# Altium integrated library TPM-Simonk-130A.IntLib: 21 symbols
Pins are listed as number, name and electrical type; pins without a type are passive.

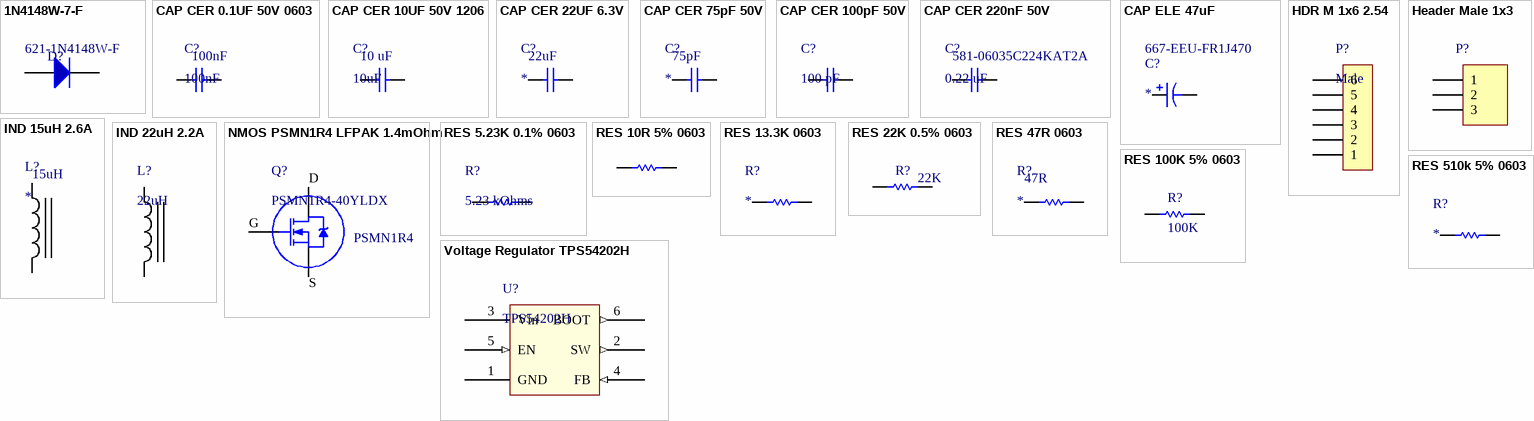
[diagram p0: symbols 1N4148W-7-F to Voltage Regulator TPS54202H]

## 1N4148W-7-F
designator D?  Supplier Part Number 1: 621-1N4148W-F  (hidden comment: *)
Diodes - General Purpose, Power, Switching 100V Io/150mA T/R; Manufacturer: Diodes Incorporated; Manufacturer Part Number: 1N4148W-7-F; Configuration: Single; Type: Switching Diode; Max Surge Current: 2 A; Recovery Time: 4 ns; If - Forward Current: 0.15 A; Ir - Reverse Current: 1 uA; Vf - Forward Voltage: 1.25 V; Supplier 1: Mouser; RoHS: RoHS Compliant; Category: Diodes - General Purpose, Power, Switching; Stock 1: 109136; Pricing 1: 1=0.160, 10=0.149, 100=0.053, 1000=0.035, 3000=0.027, 9000=0.023, 24000=0.021, 45000=0.019, 99000=0.015 (USD); Height: 1.25 mm; Length: 2.85 mm; Operating Temperature Range: - 65 C to + 150 C; Package / Case: SOD-123; Packaging: Reel; Product: Switching Diodes; Series: 1N4148; Width: 1.7 mm; Brand: Diodes Incorporated; Mounting Style: SMD/SMT; Maximum Operating Temperature: + 150 C; Minimum Operating Temperature: - 65 C; Peak Reverse Voltage: 100 V; Standard Pack Qty: 3000; RoHS - Mouser: Y; Minimum Order Quantity: 1; Reeling: True; ComponentLink1URL: http://www.mouser.com/ds/2/115/ds30086-60872.pdf; ComponentLink1Description: http://www.mouser.com/ds/2/115/ds30086-60872.pdf
footprint SOD123 (SOD-123; 2 Leads; Body 2.7 x 1.6 mm, (LxW))
pins: 1, 2

## CAP CER 0.1UF 50V 0603
designator C?, comment 100nF
Multilayer Ceramic Capacitors MLCC - SMD/SMT 100nF 50Volts X7R 0603 STD; Manufacturer: Murata Electronics North America; Manufacturer Part Number: GRM188R71H104KA93D; Capacitance: 0.10µF; Tolerance: ±10%; Voltage - Rated: 50V; Supplier 1: Digi-Key; RoHS: RoHS Compliant; Category: Capacitors; Stock 1: 6082661; Pricing 1: 1=0.1, 10=0.04, 50=0.0214, 100=0.0182, 250=0.01484, 500=0.0127, 1000=0.0099 (USD); Packaging: Cut Tape (CT); Temperature Coefficient: X7R; Mounting Type: Surface Mount, MLCC; Operating Temperature: -55°C ~ 125°C; Applications: General Purpose; Ratings: -; Package / Case: 0603 (1608 Metric); Size / Dimension: 0.063" L x 0.031" W (1.60mm x 0.80mm); Height - Seated (Max): -; Thickness (Max): 0.035" (0.90mm); Lead Spacing: -; Features: -; Lead Style: -; ComponentLink1URL: http://www.murata.com/~/media/webrenewal/support/library/catalog/products/capacitor/mlcc/c02e.pdf; ComponentLink1Description: http://www.murata.com/~/media/webrenewal/support/library/catalog/products/capacitor/mlcc/c02e.pdf; Supplier Part Number 1: 100nF
footprint Capacitor-0603 (Chip Capacitor; Body 1.6 x 0.8 mm (LxW typ))
pins: 1, 2

## CAP CER 10UF 50V 1206
designator C?, comment 10uF  Capacitance: 10 uF
Multilayer Ceramic Capacitors MLCC - SMD/SMT 1206 10uF 50volts X5R 20%; Manufacturer: Murata Electronics; Manufacturer Part Number: GRM31CR61H106MA12L; Type: General Purpose Ceramic Capacitors; Voltage Rating DC: 50 VDC; Class: Class 2; Supplier 1: Mouser; RoHS: RoHS Compliant; Category: Multilayer Ceramic Capacitors MLCC - SMD/SMT; Stock 1: 25733; Pricing 1: 1=0.340, 10=0.186, 100=0.122, 500=0.111, 1000=0.101, 2000=0.070, 10000=0.068, 24000=0.066, 50000=0.059 (USD); Height: 1.6 mm; Length: 3.2 mm; Package / Case: 1206 (3216 metric); Packaging: Reel; Product: General Type MLCCs; Series: GRM; Termination Style: SMD/SMT; Tolerance: 20 %; Width: 1.6 mm; Brand: Murata Electronics; Case Code - in: 1206; Case Code - mm: 3216; Dielectric: X5R; Maximum Operating Temperature: + 85 C; Minimum Operating Temperature: - 55 C; Standard Pack Qty: 2000; RoHS - Mouser: Y; Minimum Order Quantity: 1; Reeling: True
footprint CAP1206 (Chip Capacitor, Body 3.2x1.6mm, 1.0mm H, EIA 1206, IPC Medium Density)
pins: 1, 2

## CAP CER 22UF 6.3V
designator C?  Supplier Part Number 1: 22uF
Multilayer Ceramic Capacitors MLCC - SMD/SMT 1206 22uF 6.3volts X7R 20% Soft Term; Manufacturer: TDK; Manufacturer Part Number: CGA5L1X7R0J226M160AE; Type: Automotive MLCCs; Voltage Rating DC: 6.3 VDC; Class: Class 2; Product Status: New Product; Supplier 1: Mouser; RoHS: RoHS Compliant; Category: Multilayer Ceramic Capacitors MLCC - SMD/SMT; Stock 1: 3093; Pricing 1: 1=1.11, 10=0.931, 100=0.495, 500=0.445, 1000=0.405, 2000=0.272, 10000=0.257, 24000=0.252 (USD); Capacitance: 22 uF; Height: 1.6 mm; Length: 3.2 mm; Package / Case: 1206 (3216 metric); Packaging: Reel; Product: Automotive MLCCs; Series: CGA; Termination Style: SMD/SMT; Tolerance: 20 %; Width: 1.6 mm; Brand: TDK; Case Code - in: 1206; Case Code - mm: 3216; Dielectric: X7R; Maximum Operating Temperature: + 125 C; Minimum Operating Temperature: - 55 C; Standard Pack Qty: 2000; Termination: Flexible (Soft); RoHS - Mouser: Y; Minimum Order Quantity: 1; Reeling: True; ComponentLink1URL: http://www.mouser.com/ds/2/400/lcc_commercial_soft_en-775842.pdf; ComponentLink1Description: http://www.mouser.com/ds/2/400/lcc_commercial_soft_en-775842.pdf
footprint Capacitor-0603 (Chip Capacitor; Body 1.6 x 0.8 mm (LxW typ))
pins: 1, 2

## CAP CER 75pF 50V
designator C?  Supplier Part Number 1: 75pF
Multilayer Ceramic Capacitors MLCC - SMD/SMT 50volts 0.75pF C0G 0.25%; Manufacturer: Kemet; Manufacturer Part Number: C0603C758C5GACTU; Tolerance: 0.25 pF; Type: SMD MLCC C0G 10 - 250 VDC Commercial Grade; Voltage Rating DC: 50 VDC; Class: Class 1; Dielectric: C0G (NP0); Qualification: Commercial; Supplier 1: Mouser; RoHS: RoHS Compliant; Category: Multilayer Ceramic Capacitors MLCC - SMD/SMT; Stock 1: 3439; Pricing 1: 1=0.350, 10=0.205, 100=0.124, 500=0.113, 1000=0.102, 4000=0.075, 8000=0.068, 24000=0.066, 48000=0.058 (USD); Capacitance: 0.75 pF; Height: 0.8 mm; Length: 1.6 mm; Package / Case: 0603 (1608 metric); Packaging: Reel; Product: General Type MLCCs; Series: C0603C; Termination Style: SMD/SMT; Voltage Rating AC: -; Width: 0.8 mm; Brand: Kemet; Case Code - in: 0603; Case Code - mm: 1608; Maximum Operating Temperature: + 125 C; Minimum Operating Temperature: - 55 C; Standard Pack Qty: 4000; Termination: -; RoHS - Mouser: Y; Minimum Order Quantity: 1; Reeling: True; ComponentLink1URL: http://www.mouser.com/ds/2/212/KEM_C1003_C0G_SMD-356956.pdf; ComponentLink1Description: http://www.mouser.com/ds/2/212/KEM_C1003_C0G_SMD-356956.pdf
footprint Capacitor-0603 (Chip Capacitor; Body 1.6 x 0.8 mm (LxW typ))
pins: 1, 2

## CAP CER 100pF 50V
designator C?, comment 100 pF
Multilayer Ceramic Capacitors MLCC - SMD/SMT 100pF 5% 50V X7R; Manufacturer: Kemet; Manufacturer Part Number: C0603C101J5RACTU; Type: SMD MLCC X7R 6.3 - 250 VDC Commerical Grade; Voltage Rating DC: 50 VDC; Capacitance - nF: 0.1 nF; Class: Class 2; Product Status: New Product; Supplier 1: Mouser; RoHS: RoHS Compliant; Category: Multilayer Ceramic Capacitors MLCC - SMD/SMT; Stock 1: 6858; Pricing 1: 1=0.250, 10=0.115, 100=0.071, 500=0.063, 1000=0.053, 4000=0.042, 8000=0.037, 24000=0.035, 48000=0.030 (USD); Capacitance: 100 pF; Height: 0.8 mm; Length: 1.6 mm; Package / Case: 0603 (1608 metric); Packaging: Reel; Product: General Type MLCCs; Series: C0603C; Termination Style: SMD/SMT; Tolerance: 5 %; Voltage Rating AC: -; Width: 0.8 mm; Brand: Kemet; Case Code - in: 0603; Case Code - mm: 1608; Dielectric: X7R; Maximum Operating Temperature: + 125 C; Minimum Operating Temperature: - 55 C; Standard Pack Qty: 4000; Termination: -; RoHS - Mouser: Y; Minimum Order Quantity: 1; Reeling: True; ComponentLink1URL: http://www.mouser.com/ds/2/212/KEM_C1002_X7R_SMD-357932.pdf; ComponentLink1Description: http://www.mouser.com/ds/2/212/KEM_C1002_X7R_SMD-357932.pdf; Supplier Part Number 1: 80-C0603C101J5R
footprint Capacitor-0603 (Chip Capacitor; Body 1.6 x 0.8 mm (LxW typ))
pins: 1, 2

## CAP CER 220nF 50V
designator C?, comment 0.22 uF  Supplier Part Number 1: 581-06035C224KAT2A
Multilayer Ceramic Capacitors MLCC - SMD/SMT 50V .22uF X7R 0603 10% Tol; Manufacturer: AVX; Manufacturer Part Number: 06035C224KAT2A; Type: X7R MLC Capacitors; Voltage Rating DC: 50 VDC; Capacitance - nF: 220 nF; Capacitance - pF: 220000 pF; Class: Class 2; Product Status: New Product; Supplier 1: Mouser; RoHS: RoHS Compliant; Category: Multilayer Ceramic Capacitors MLCC - SMD/SMT; Stock 1: 3339; Pricing 1: 1=0.200, 25=0.178, 50=0.171, 100=0.155, 500=0.139, 1000=0.112, 2000=0.102, 4000=0.098 (USD); Capacitance: 0.22 uF; Height: 0.35 mm; Length: 1.6 mm; Package / Case: 0603 (1608 metric); Packaging: Reel; Product: General Type MLCCs; Termination Style: SMD/SMT; Tolerance: 10 %; Width: 0.8 mm; Brand: AVX; Case Code - in: 0603; Case Code - mm: 1608; Dielectric: X7R; Maximum Operating Temperature: + 125 C; Minimum Operating Temperature: - 55 C; Standard Pack Qty: 4000; Termination: -; RoHS - Mouser: Y; Minimum Order Quantity: 1; Reeling: True; ComponentLink1URL: http://www.mouser.com/ds/2/40/X7RDielectric-777024.pdf; ComponentLink1Description: http://www.mouser.com/ds/2/40/X7RDielectric-777024.pdf
footprint Capacitor-0603 (Chip Capacitor; Body 1.6 x 0.8 mm (LxW typ))
pins: 1, 2

## CAP ELE 47uF
designator C?  Supplier Part Number 1: 667-EEU-FR1J470
Aluminum Electrolytic Capacitors - Leaded 63volt 47uF 6.3X11mm LS:2.5mm Bulk Strait; Manufacturer: Panasonic; Manufacturer Part Number: EEU-FR1J470; Tolerance: 20 %; Voltage Rating DC: 63 VDC; ESR: 210 mOhms; Life: 5000 Hour; Ripple Current: 284 mA; Supplier 1: Mouser; RoHS: RoHS Compliant; Category: Aluminum Electrolytic Capacitors - Leaded; Stock 1: 26440; Pricing 1: 1=0.350, 10=0.169, 100=0.120, 500=0.108, 1000=0.091, 2500=0.086, 10000=0.075, 25000=0.072, 50000=0.065 (USD); Capacitance: 47 uF; Diameter: 6.3 mm; Length: 11.2 mm; Packaging: Bulk; Product: Low ESR Electrolytic Capacitors; Series: FR; Termination Style: Radial; Brand: Panasonic; Lead Spacing: 2.5 mm; Maximum Operating Temperature: + 105 C; Standard Pack Qty: 200; RoHS - Mouser: Y; Minimum Order Quantity: 1; Reeling: False; ComponentLink1URL: http://www.mouser.com/ds/2/315/ABA0000C1021-947569.pdf; ComponentLink1Description: http://www.mouser.com/ds/2/315/ABA0000C1021-947569.pdf
footprint Radial 13x20mm STAND
footprint Cap 47uF
pins: 1, 2

## HDR M 1x6 2.54
designator P?, comment Male
Headers & Wire Housings 40Pin 2mm Spacing Single Row Hdrs, 5pc; Manufacturer: Cromax; Manufacturer Part Number: IMP10327; Mounting Angle: Vertical; Number of Positions: 40 Position; Pitch: 2.54 mm; Supplier 1: Mult Comercial; RoHS: RoHS Compliant; Category: Headers & Wire Housings; Stock 1: 14; Pricing 1: 1=1.00, 5=0.20 (BRL); Accessory Type: -; Contact Plating: Gold; Contact Type: -; Number of Rows: 1 Row; Product: Headers; Termination Style: Through Hole; Type: Breakaway; Brand: Cromax; Mounting Style: Straight Pin; Row Spacing: -; Contact Gender: Pin (Male); Product Category: Accessories; RoHS - Mouser: Y; Minimum Order Quantity: 1; Reeling: False; ComponentLink1URL: http://loja.multcomercial.com.br/barra-de-pinos-simples-1x40-macho-bmo40-1e.html; ComponentLink1Description: http://loja.multcomercial.com.br/barra-de-pinos-simples-1x40-macho-bmo40-1e.html; Supplier Part Number 1: Barra de Pinos Simples 1x40 Macho BMO40-1E
footprint MODU 2.54MM - 1x6 - CABLE
footprint CASTELLATED 6CONNECTION
footprint CASTELLETED 6HOLES (PinHeader 1x6 TH Pitch 2.54mm)
pins: 1, 2, 3, 4, 5, 6

## Header Male 1x3
designator P?  (value not drawn)
Headers & Wire Housings 40Pin 2mm Spacing Single Row Hdrs, 5pc; Manufacturer: Cromax; Manufacturer Part Number: IMP10327; Mounting Angle: Vertical; Number of Positions: 40 Position; Supplier 1: Mult Comercial; RoHS: RoHS Compliant; Category: Headers & Wire Housings; Stock 1: 14; Pricing 1: 1=1.00, 5=0.20 (BRL); Accessory Type: -; Contact Plating: Gold; Contact Type: -; Number of Rows: 1 Row; Product: Headers; Termination Style: Through Hole; Type: Breakaway; Brand: Cromax; Mounting Style: Straight Pin; Pitch: 2 mm; Row Spacing: -; Contact Gender: Pin (Male); Product Category: Accessories; RoHS - Mouser: Y; Minimum Order Quantity: 1; Reeling: False; ComponentLink1URL: http://loja.multcomercial.com.br/barra-de-pinos-simples-1x40-macho-bmo40-1e.html; ComponentLink1Description: http://loja.multcomercial.com.br/barra-de-pinos-simples-1x40-macho-bmo40-1e.html; Supplier Part Number 1: Barra de Pinos Simples 1x40 Macho BMO40-1E
footprint CASTELLATED 3HOLES (PinHeader 1x3 TH Pitch 2.54mm)
footprint CASTELLATED 3CONNECTIONS
pins: 1, 2, 3 (power)

## IND 15uH 2.6A
designator L?  Supplier Part Number 1: 15uH
Fixed Inductors 15uH 0.055ohms 2.3A 20% AEC-Q200; Manufacturer: TDK; Manufacturer Part Number: CLF7045NIT-150M-D; Core Material: Ferrite; Maximum DC Current: 2.6 A; Maximum DC Resistance: 55 mOhms; Shielding: Shielded; Type: Wound Ferrite; Test Frequency: 100 kHz; Product Status: New Product; Supplier 1: Mouser; RoHS: RoHS Compliant; Category: Fixed Inductors; Stock 1: 1262; Pricing 1: 1=1.28, 10=0.963, 100=0.915, 500=0.738, 1000=0.514, 2000=0.481, 10000=0.465, 25000=0.449 (USD); Height: 4.5 mm; Inductance: 15 uH; Length: 7.4 mm; Operating Temperature Range: - 55 C to + 150 C; Packaging: Reel; Product: Power Inductors; Q Minimum: -; Self Resonant Frequency: -; Series: CLF; Termination Style: SMD/SMT; Tolerance: 20 %; Width: 7 mm; Brand: TDK; Mounting Style: SMD/SMT; Qualification: AEC-Q200; Standard Pack Qty: 1000; RoHS - Mouser: Y; Minimum Order Quantity: 1; Reeling: True; ComponentLink1URL: http://www.mouser.com/ds/2/400/nductor_automotive_power_clf7045ni-d_en-876352.pdf; ComponentLink1Description: http://www.mouser.com/ds/2/400/nductor_automotive_power_clf7045ni-d_en-876352.pdf
footprint IND_7.4X7 (Wire-wound power inductor, Cooper Bussmann DR73 series, IPC Medium Density)
pins: 1, 2

## IND 22uH 2.2A
designator L?, comment 22uH
Fixed Inductors 22uH 0.069ohms 1.7A 20% AEC-Q200; Manufacturer: TDK; Manufacturer Part Number: CLF7045NIT-220M-D; Core Material: Ferrite; Maximum DC Current: 2.2 A; Maximum DC Resistance: 69 mOhms; Shielding: Shielded; Type: Wound Ferrite; Test Frequency: 100 kHz; Product Status: New Product; Supplier 1: Mouser; RoHS: RoHS Compliant; Category: Fixed Inductors; Stock 1: 1647; Pricing 1: 1=1.28, 10=0.963, 100=0.915, 500=0.738, 1000=0.514, 2000=0.481, 10000=0.465, 25000=0.449 (USD); Height: 4.5 mm; Inductance: 22 uH; Length: 7.4 mm; Operating Temperature Range: - 55 C to + 150 C; Packaging: Reel; Product: Power Inductors; Q Minimum: -; Self Resonant Frequency: -; Series: CLF; Termination Style: SMD/SMT; Tolerance: 20 %; Width: 7 mm; Brand: TDK; Mounting Style: SMD/SMT; Qualification: AEC-Q200; Standard Pack Qty: 1000; RoHS - Mouser: Y; Minimum Order Quantity: 1; Reeling: True; ComponentLink1URL: http://www.mouser.com/ds/2/400/nductor_automotive_power_clf7045ni-d_en-876352.pdf; ComponentLink1Description: http://www.mouser.com/ds/2/400/nductor_automotive_power_clf7045ni-d_en-876352.pdf
footprint IND_7.4X7 (Wire-wound power inductor, Cooper Bussmann DR73 series, IPC Medium Density)
pins: 1, 2

## NMOS PSMN1R4 LFPAK 1.4mOhm
designator Q?, comment PSMN1R4-40YLDX  Supplier Part Number 1: PSMN1R4
MOSFET N-CH 40V 1.4 mOhm logic level MOSFET; Manufacturer: NXP Semiconductors; Configuration: Single; Transistor Type: 1 N-Channel; Number of Channels: 1 Channel; Transistor Polarity: N-Channel; Channel Mode: Enhancement; Fall Time: 30 ns; Id - Continuous Drain Current: 100 A; Pd - Power Dissipation: 238 W; Qg - Gate Charge: 45 nC; Rds On - Drain-Source Resistance: 1.4 mOhms; Rise Time: 49 ns; Typical Turn-Off Delay Time: 47 ns; Typical Turn-On Delay Time: 39 ns; Vgs - Gate-Source Voltage: 20 V; Vgs th - Gate-Source Threshold Voltage: 1.7 V; Supplier 1: Mouser; Manufacturer Part Number: PSMN1R4-40YLDX; RoHS: RoHS Compliant; Category: MOSFET; Stock 1: 1445; Pricing 1: 1=1.47, 10=1.26, 100=0.968, 500=0.855, 1000=0.675, 1500=0.597 (USD); Package / Case: SOT-669-4; Packaging: Reel; Technology: Si; Brand: NXP Semiconductors; Mounting Style: SMD/SMT; Maximum Operating Temperature: + 175 C; Minimum Operating Temperature: - 55 C; Standard Pack Qty: 1500; Vds - Drain-Source Breakdown Voltage: 40 V; RoHS - Mouser: Y; Minimum Order Quantity: 1; Reeling: True; ComponentLink1URL: http://www.mouser.com/ds/2/302/PSMN1R4-40YLD-842680.pdf; ComponentLink1Description: http://www.mouser.com/ds/2/302/PSMN1R4-40YLD-842680.pdf
footprint LFPAK (Renesas LFPAK, a variant of SOIC-8; IPC Medium Density)
pins: 1 S, 4 G, 5 D

## RES 5.23K 0.1% 0603
designator R?, comment 5.23 kOhms
Thin Film Resistors - SMD 5.23k; Manufacturer: Panasonic; Manufacturer Part Number: ERA-3AEB5231V; Description: Thin Film Resistors - SMD 0603 5.23Kohm 0.1% 25ppm; Power Rating: 100 mW; Temperature Coefficient: 25 PPM / C; Tolerance: 0.1 %; Voltage Rating: 75 V; Supplier 1: Mouser; RoHS: RoHS Compliant By Exemption; Category: Thin Film Resistors - SMD; Stock 1: 7717; Pricing 1: 1=0.630, 10=0.249, 100=0.149, 500=0.105, 1000=0.076, 5000=0.042, 10000=0.039, 25000=0.037 (USD); Height: 0.45 mm; Length: 1.6 mm; Operating Temperature Range: - 55 C to + 155 C; Package / Case: 0603 (1608 metric); Packaging: Reel; Product: Thin Film Resistors SMD; Resistance: 5.23 kOhms; Series: ERA-3A; Termination Style: SMD/SMT; Type: Metal Film Chip Resistors; Width: 0.8 mm; Brand: Panasonic; Case Code - in: 0603; Case Code - mm: 1608; Standard Pack Qty: 5000; RoHS - Mouser: E; Minimum Order Quantity: 1; Reeling: True; ComponentLink1URL: http://www.mouser.com/ds/2/315/AOA0000C237-944224.pdf; ComponentLink1Description: http://www.mouser.com/ds/2/315/AOA0000C237-944224.pdf; Supplier Part Number 1: 667-ERA-3AEB5231V
footprint RESISTOR 0603 (RES 5% 0603)
pins: 1, 2

## RES 10R 5% 0603
designator R?  (value not drawn)
Thin Film Resistors - SMD Thermo Sensitive Chp Resistor 0603 5%; Manufacturer: Panasonic; Manufacturer Part Number: ERA-V15J100V; Power Rating: 63 mW; Resistance: 10 Ohms; Temperature Coefficient: 1500 PPM / C; Supplier 1: Mouser; RoHS: RoHS Compliant By Exemption; Category: Thin Film Resistors - SMD; Stock 1: 9147; Pricing 1: 1=0.950, 10=0.465, 100=0.320, 500=0.261, 1000=0.203, 5000=0.129, 10000=0.123, 25000=0.121, 50000=0.120 (USD); Height: 0.45 mm; Length: 1.6 mm; Operating Temperature Range: - 40 C to + 125 C; Package / Case: 0603 (1608 metric); Packaging: Reel; Product: Thin Film Resistors SMD; Series: ERA-V15; Termination Style: SMD/SMT; Tolerance: 5 %; Width: 0.8 mm; Brand: Panasonic; Case Code - in: 0603; Case Code - mm: 1608; Standard Pack Qty: 5000; RoHS - Mouser: E; Minimum Order Quantity: 1; Reeling: True; ComponentLink1URL: http://www.mouser.com/ds/2/315/AOF0000CE1-944543.pdf; ComponentLink1Description: http://www.mouser.com/ds/2/315/AOF0000CE1-944543.pdf; Supplier Part Number 1: 667-ERA-V15J100V
footprint RESISTOR 0603 (RES 5% 0603)
pins: 1, 2

## RES 13.3K 0603
designator R?
Thin Film Resistors - SMD 0603 Thin film chip resistor; Manufacturer: Panasonic; Manufacturer Part Number: ERA-3ARB1332V; Power Rating: 100 mW; Resistance: 13.3 kOhms; Temperature Coefficient: 10 PPM / C; Tolerance: 0.1 %; Voltage Rating: 75 V; Qualification: AEC-Q200; Supplier 1: Mouser; Category: Thin Film Resistors - SMD; Stock 1: 4400; Pricing 1: 1=1.29, 10=0.685, 100=0.531, 500=0.446, 1000=0.343, 5000=0.218, 10000=0.210, 25000=0.206, 50000=0.204 (USD); Height: 0.45 mm; Length: 1.6 mm; Operating Temperature Range: - 55 C to + 155 C; Package / Case: 0603 (1608 metric); Packaging: Reel; Product: Thin Film Resistors SMD; Series: ERA-3A; Type: High Reliability; Width: 0.8 mm; Brand: Panasonic; Case Code - in: 0603; Case Code - mm: 1608; Standard Pack Qty: 5000; Minimum Order Quantity: 1; Reeling: True; ComponentLink1URL: http://www.mouser.com/ds/2/315/AOA0000C237-944224.pdf; ComponentLink1Description: http://www.mouser.com/ds/2/315/AOA0000C237-944224.pdf; Supplier Part Number 1: 13.3K
footprint RESISTOR 0603 (RES 5% 0603)
pins: 1, 2

## RES 22K 0.5% 0603
designator R?  Supplier Part Number 1: 22K  (hidden comment: *)
Thin Film Resistors - SMD 1/20W 22Kohm 0.5% 25ppm; Manufacturer: Susumu; Manufacturer Part Number: RR0306P-223-D; Power Rating: 50 mW; Resistance: 22 kOhms; Temperature Coefficient: 25 PPM / C; Voltage Rating: 15 V; Supplier 1: Mouser; RoHS: RoHS Compliant; Category: Thin Film Resistors - SMD; Stock 1: 6532; Pricing 1: 1=0.300, 10=0.131, 100=0.059, 1000=0.040, 2000=0.031, 5000=0.031, 10000=0.026, 25000=0.025 (USD); Height: 0.23 mm; Length: 0.6 mm; Operating Temperature Range: - 55 C to + 125 C; Package / Case: 0201 (0603 metric); Packaging: Reel; Product: Thin Film Resistors SMD; Termination Style: SMD/SMT; Tolerance: 0.5 %; Width: 0.3 mm; Brand: Susumu; Case Code - in: 0201; Case Code - mm: 0603; Standard Pack Qty: 5000; RoHS - Mouser: Y; Minimum Order Quantity: 1; Reeling: True; ComponentLink1URL: http://www.mouser.com/ds/2/392/susumu_RR_Data_Sheet-358748.pdf; ComponentLink1Description: http://www.mouser.com/ds/2/392/susumu_RR_Data_Sheet-358748.pdf
footprint RESISTOR 0603 (RES 5% 0603)
pins: 1, 2

## RES 47R 0603
designator R?  Supplier Part Number 1: 47R
Thick Film Resistors - SMD 1/10watt 47ohms 1%; Manufacturer: Vishay / Dale; Manufacturer Part Number: CRCW060347R0FKTA; Power Rating: 100 mW; Temperature Coefficient: 100 PPM / K; Voltage Rating: 75 V; Qualification: Commercial; Supplier 1: Mouser; RoHS: No; Category: Thick Film Resistors - SMD; Stock 1: 0; Pricing 1: 5000=0.010, 10000=0.009, 25000=0.008, 50000=0.007 (USD); Features: Metal glaze on high quality ceramic; Height: 0.45 mm; Length: 1.55 mm; Operating Temperature Range: - 55 C to + 155 C; Package / Case: 0603 (1608 metric); Packaging: Reel; Product: Thick Film Resistors SMD; Resistance: 47 Ohms; Series: CRCW; Termination Style: SMD/SMT; Tolerance: 1 %; Width: 0.85 mm; Brand: Vishay / Dale; Case Code - in: 0603; Case Code - mm: 1608; Standard Pack Qty: 5000; RoHS - Mouser: N; Minimum Order Quantity: 5000; Reeling: True; ComponentLink1URL: http://www.mouser.com/ds/2/427/dcrcw-72725.pdf; ComponentLink1Description: http://www.mouser.com/ds/2/427/dcrcw-72725.pdf
footprint RESISTOR 0603 (RES 5% 0603)
pins: 1, 2

## RES 100K 5% 0603
designator R?, comment 100K
Manufacturer: PANASONIC ELECTRONIC COMPONENTS; Manufacturer Part Number: ERJ3GEYJ104V; Product Range: AEC-Q200 ERJ3; Resistance: 100; Resistance Tolerance: ± 5%; Voltage Rating: 75; Resistor Case Style: 0603 [1608 Metric]; Resistor Element Material: Thick Film; Temperature Coefficient: ± 200; SVHC: No SVHC (15-Jun-2015); Resistor Mounting: Surface Mount Device<!--FANDB--><div class="features-and-benefits-container"><div class="features-and-benefits-description"><span class="features-benefits-value">The Panasonic ERJ 3G series resistors are automotive grade thick film chip resistors. The resistance range includes E24 decade values from 1ohm to 10Mohm. ERJ series resistors have metal glaze thick film resistive element and three layers of electrodes that make them highly reliable.</span></div><div class="features-and-benefits-list"><ul class="features-and-benefits-list-list"><li class="features-and-benefits-list-item">EIA 01005, 0201, 0402, 0603, 0805, 1206, 1210, 1812, 2010, 2512 case sizes available</li><li class="features-and-benefits-list-item">Small size, low weight resistors</li><li class="features-and-benefits-list-item">Automotive grade AEC-Q200 compliant</li><li class="features-and-benefits-list-item">Maximum power rating of 1W</li><li class="features-and-benefits-list-item">Tolerance of ±5%</li><li class="features-and-benefits-list-item">Temperature coefficient (TCR) of -100 to +600, -400 to +150, ±300 and ±200ppm/°C</li><li class="features-and-benefits-list-item">Available in -55°C to 125°C and -55°C to 155°C operating temperature ranges</li><li class="features-and-benefits-list-item">Meets IEC 60115-8, JIS C 5201-8, EIAJ RC-2134; Tolerance: 5 %; Brand: Panasonic; Qualification: AEC-Q200; RoHS: YES; Power Rating: 100; Packaging: Cut Tape; MSL: -; ComponentLink1URL: http://www.farnell.com/datasheets/1678796.pdf; ComponentLink1Description: http://www.farnell.com/datasheets/1678796.pdf; ComponentLink2URL: http://www.farnell.com/datasheets/1718548.pdf; ComponentLink2Description: http://www.farnell.com/datasheets/1718548.pdf; Supplier 1: Mouser; Category: Thick Film Resistors - SMD; Stock 1: 312094; Pricing 1: 1=0.160, 10=0.019, 100=0.013, 500=0.010, 1000=0.005, 5000=0.003 (AUD); Height: 0.45 mm; Length: 1.6 mm; Operating Temperature Range: - 55 C to + 155 C; Package / Case: 0603 (1608 metric); Product: Thick Film Resistors SMD; Series: ERJ; Termination Style: SMD/SMT; Type: Thick Film Resistors SMD; Width: 0.8 mm; Case Code - in: 0603; Case Code - mm: 1608; RoHS - Mouser: E; Minimum Order Quantity: 1; Reeling: True; ComponentLink3URL: http://www.mouser.com/ds/2/315/AOA0000C84-947596.pdf; ComponentLink3Description: http://www.mouser.com/ds/2/315/AOA0000C84-947596.pdf; Supplier Part Number 1: 667-ERJ-3GEYJ104V
footprint RESISTOR 0603 (RES 5% 0603)
pins: 1, 2

## RES 510k 5% 0603
designator R?
Thick Film Resistors - SMD 0603 510Kohms 5% AEC-Q200; Manufacturer: Panasonic; Manufacturer Part Number: ERJ-3GEYJ514V; Power Rating: 100 mW; Temperature Coefficient: 200 PPM / C; Voltage Rating: 75 V; Supplier 1: Mouser; RoHS: RoHS Compliant By Exemption; Category: Thick Film Resistors - SMD; Stock 1: 124722; Pricing 1: 1=0.090, 10=0.020, 100=0.010, 500=0.006, 1000=0.003, 5000=0.003, 10000=0.002 (USD); Features: High reliability, Small Size and Light Weight; Height: 0.45 mm; Length: 1.6 mm; Operating Temperature Range: - 55 C to + 155 C; Package / Case: 0603 (1608 metric); Packaging: Reel; Product: Thick Film Resistors SMD; Resistance: 510 kOhms; Series: ERJ; Termination Style: SMD/SMT; Tolerance: 5 %; Type: Thick Film Resistors SMD; Width: 0.8 mm; Brand: Panasonic; Case Code - in: 0603; Case Code - mm: 1608; Qualification: AEC-Q200; Standard Pack Qty: 5000; RoHS - Mouser: E; Minimum Order Quantity: 1; Reeling: True; ComponentLink1URL: http://www.mouser.com/ds/2/315/AOA0000C84-947596.pdf; ComponentLink1Description: http://www.mouser.com/ds/2/315/AOA0000C84-947596.pdf
footprint RESISTOR 0603 (RES 5% 0603)
pins: 1, 2

## Voltage Regulator TPS54202H
designator U?, comment TPS54202H
Voltage Regulators - Switching Regulators 4.5V to 28V Input, 2A Output, Synchronous Step-Down Voltage Converter 6-SOT -40 to 125; Manufacturer: Texas Instruments; Manufacturer Part Number: TPS54202HDDCR; Number of Outputs: 1 Output; Output Voltage: 5 V; Quiescent Current: 45 uA; Switching Frequency: 500 kHz; Topology: Buck; Operating Supply Current: 2 uA; Product Status: New Product; Supplier 1: Mouser; RoHS: RoHS Compliant; Category: Voltage Regulators - Switching Regulators; Stock 1: 2919; Pricing 1: 1=1.39, 10=1.19, 100=0.914, 500=0.808, 1000=0.638, 3000=0.563, 9000=0.542 (USD); Input Voltage: 4.5 V to 28 V; Input Voltage MAX: 28 V; Operating Temperature Range: - 40 C to + 125 C; Output Current: 2 A; Package / Case: SOT-6; Packaging: Reel; Series: TPS54202H; Type: Synchronous Step Down Voltage Converter; Brand: Texas Instruments; Mounting Style: SMD/SMT; Shutdown: Shutdown; Input Voltage MIN: 4.5 V; Maximum Operating Temperature: + 125 C; Minimum Operating Temperature: - 40 C; Standard Pack Qty: 3000; Supply Voltage - Min: 4.5 V; RoHS - Mouser: Y; Minimum Order Quantity: 1; Reeling: True
footprint SOT23-6
pins: 1 GND (power), 2 SW (out), 3 Vin (power), 4 FB (in) "4", 5 EN (in), 6 BOOT (out)